# Altium schematic symbol library Controlador_Digital.SchLib: 1 symbol
Pins are listed as number, name and electrical type; pins without a type are passive.

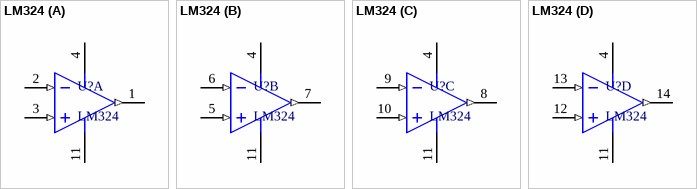
[diagram p0: symbol LM324]

## LM324
designator U?
footprint TI-N14 (DIP, 14-Leads, Body 19.305x6.35 mm, Pitch 2.54 mm)
part A pins: 1 OUT1 (out), 2 IN1- (in), 3 IN1+ (in), 4 VCC+ (power), 11 VCC- (power)
part B pins: 4 VCC+ (power), 5 IN1+ (in), 6 IN1- (in), 7 OUT1 (out), 11 VCC- (power)
part C pins: 4 VCC+ (power), 8 OUT1 (out), 9 IN1- (in), 10 IN1+ (in), 11 VCC- (power)
part D pins: 4 VCC+ (power), 11 VCC- (power), 12 IN1+ (in), 13 IN1- (in), 14 OUT1 (out)